# Altium schematic symbol library TAJB107K006RNJV.SchLib: 1 symbol
Pins are listed as number, name and electrical type; pins without a type are passive.

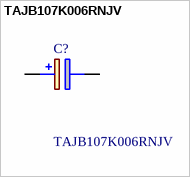
[diagram p0: symbol TAJB107K006RNJV]

## TAJB107K006RNJV
designator C?
Tantalum Capacitors - Solid SMD 6V 100uF 10% 1210 ESR = 1.7 Ohms; Manufacturer_Name: AVX; Geometry.Height: 2.1mm; Manufacturer_Part_Number: TAJB107K006RNJV; Mouser Part Number: 581-TAJB107K006RNJV; Mouser Price/Stock: https://www.mouser.co.uk/ProductDetail/AVX/TAJB107K006RNJV?qs=k4kUdCzLgS40BaXg2EcjHA%3D%3D; Arrow Part Number: TAJB107K006RNJV; Arrow Price/Stock: https://www.arrow.com/en/products/tajb107k006rnjv/avx?region=nac; Datasheet Link: http://datasheets.avx.com/TAJ.pdf
footprint CAPPM3528X210N
pins: 1 +, 2 -